# Altium integrated library CP2102N.IntLib: 1 symbol
Pins are listed as number, name and electrical type; pins without a type are passive.

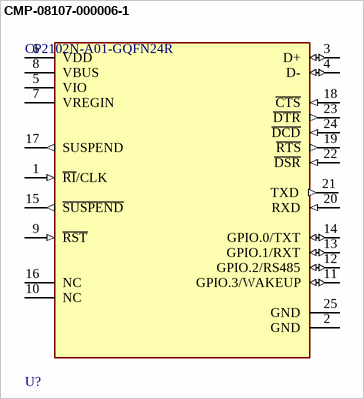
[diagram p0: symbol CMP-08107-000006-1]

## CMP-08107-000006-1
designator U?, comment CP2102N-A01-GQFN24R
IC BRIDGE USB TO UART 24QFN; Manufacturer: Silicon Labs; Standoff Height: 0mm; Function: USB-to-UART Bridge; Nominal Supply Current: 195-13700uA; Max Junction Temp: +105°C; Interface: UART,USB,RS-232; Max Supply Voltage: 5.25V; Min Supply Voltage: 1.71V; Height: 0.8mm; Ipc Land Pattern Name: QFN50P400X400X75-24; Digikey Description: IC BRIDGE USB TO UART 24QFN; Temperature Range Low: -40°C; Device Class L2: Interface ICs; Ambient Temperature Range High: +85°C; Lead Free: Yes; ComponentLink2URL: https://media.digikey.com/pdf/Data%20Sheets/Silicon%20Laboratories%20PDFs/CP2102N_Rev.1.3_DS.pdf; Manufacturer Part Number: CP2102N-A01-GQFN24R; Automotive: No; Octopart: https://octopart.com/cp2102n-a01-gqfn24r-silicon+labs-76789143; RoHS: TRUE; Package: 0; Device Class L1: Integrated Circuits (ICs); Category: IC; Device Class L3: Controllers; Temperature: -40°C to +85°C; Ambient Temperature Range Low: -40°C; ComponentLink2Description: Datasheet; Mouser Description: Full Speed Basic USB Type-C Controller USB 2.0 3.3V T/R Automotive 24-Pin QFN EP; Temperature Range High: +85°C
footprint FP-CP2102N-A01-GQFN24R-IPC_C
footprint FP-CP2102N-A01-GQFN24R-IPC_B
footprint FP-CP2102N-A01-GQFN24R-IPC_A
footprint FP-CP2102N-A01-GQFN24R-MFG
pins: 1 ~{RI}/CLK (in), 2 GND (power), 3 D+ (io), 4 D- (io), 5 VIO (power), 6 VDD (power), 7 VREGIN (power), 8 VBUS (power), 9 ~{RST} (in), 10 NC, 11 GPIO.3/WAKEUP (io), 12 GPIO.2/RS485 (io), 13 GPIO.1/RXT (io), 14 GPIO.0/TXT (io), 15 ~{SUSPEND} (out), 16 NC, 17 SUSPEND (out), 18 ~{CTS} (in), 19 ~{RTS} (out), 20 RXD (in), 21 TXD (out), 22 ~{DSR} (in), 23 ~{DTR} (out), 24 ~{DCD} (in), 25 GND (power)